# Altium schematic symbol library SCH - POWER - LINEAR VREG - TI LM9076S-3.3.SchLib: 1 symbol
Pins are listed as number, name and electrical type; pins without a type are passive.

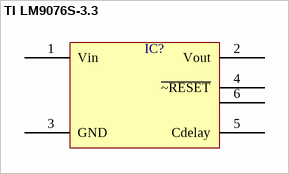
[diagram p0: symbol TI LM9076S-3.3]

## TI LM9076S-3.3
designator IC?  (value not drawn)
pins: 1 Vin, 2 Vout, 3 GND, 4 ~{~RESET}, 5 Cdelay, 6